# Altium integrated library Resistors.IntLib: 4954 symbols (part 26 of 32)
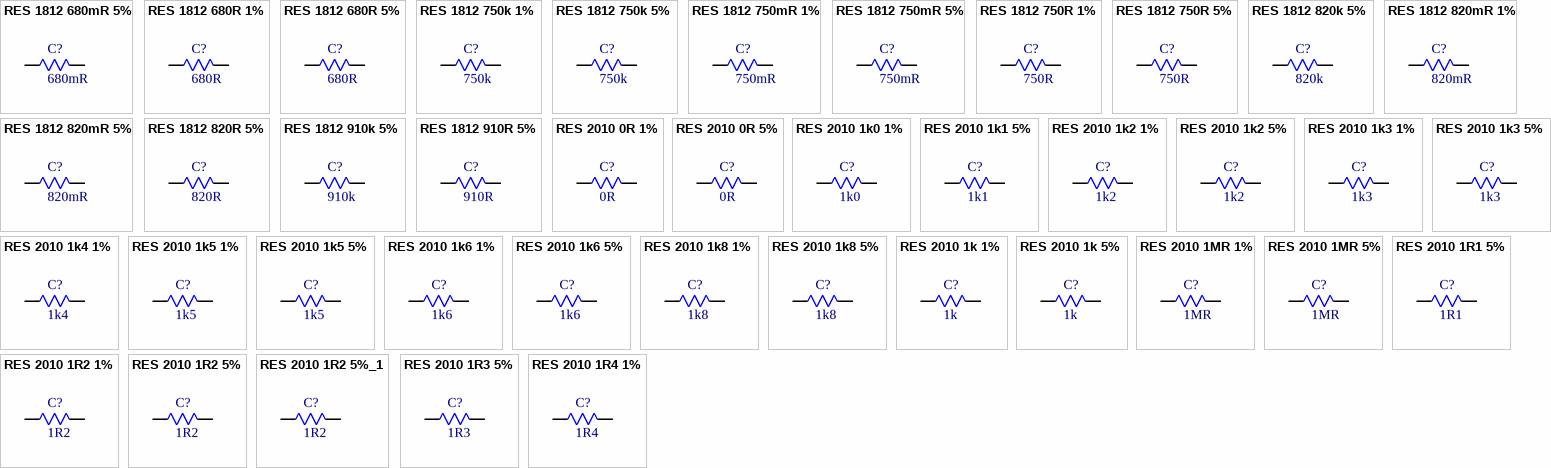
[diagram p148: symbols RES 1812 680mR 5% to RES 2010 1R4 1%]

## RES 2010 1R3 5%
designator C?, comment 1R3
1.3R 5% 750mW 2010 Thick Film Resistor; Manufacturer: FOJAN; Manufacturer Part Number: FRC2010J1R3 TS; Voltage Rating: 200V; Supplier: LCSC; Supplier Part Number: C2934005; Resistance: 1R3; Tolerance: 5%; Power: 750mW
footprint RES SMD 2010
pins: 1, 2

## RES 2010 1R4 1%
designator C?, comment 1R4
1.4R 1% 750mW 2010 Thick Film Resistor; Manufacturer: FOJAN; Manufacturer Part Number: FRC2010F1R40TS; Voltage Rating: 200V; Supplier: LCSC; Supplier Part Number: C5159754; Resistance: 1R4; Tolerance: 1%; Power: 750mW
footprint RES SMD 2010
pins: 1, 2

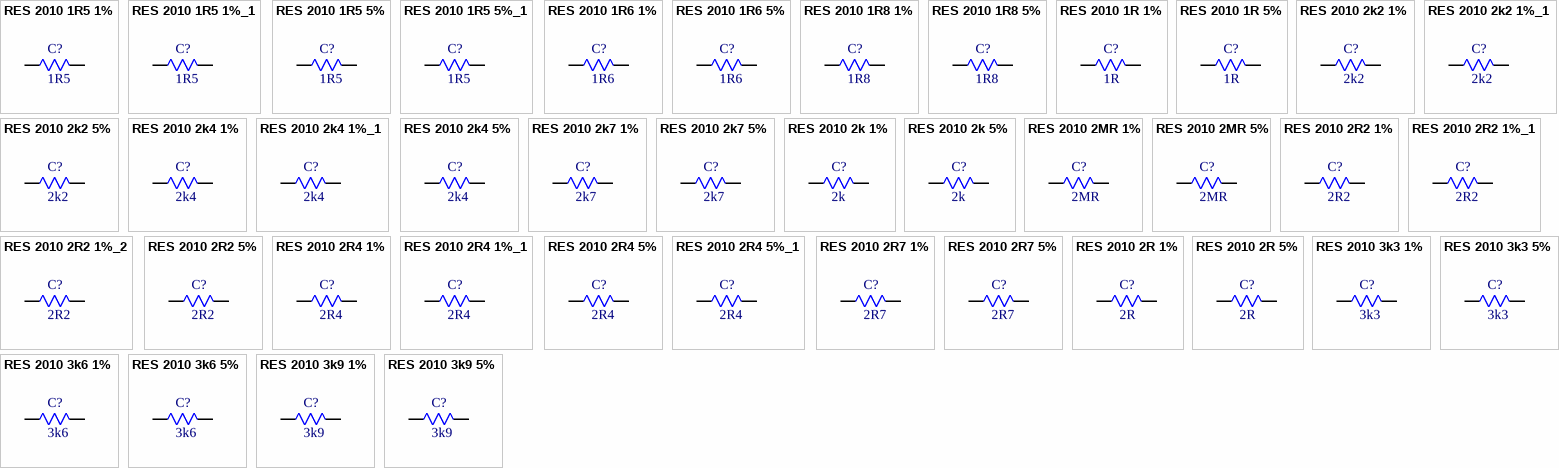
[diagram p100: symbols RES 2010 1R5 1% to RES 2010 3k9 5%]

## RES 2010 1R5 1%
designator C?, comment 1R5
1.5R 1% 750mW 2010 Thick Film Resistor; Manufacturer: FOJAN; Manufacturer Part Number: FRC2010F1R50TS; Voltage Rating: 200V; Supplier: LCSC; Supplier Part Number: C5146253; Resistance: 1R5; Tolerance: 1%; Power: 750mW
footprint RES SMD 2010
pins: 1, 2

## RES 2010 1R5 1%_1
designator C?, comment 1R5
750mW 1.5MR 200V Thick Film Resistor 100ppm/â„ƒ 1% 2010 Chip Resistor - Surface Mount RoHS; Manufacturer: FOJAN; Manufacturer Part Number: FRC2010F1504TS; Supplier: LCSC; Supplier Part Number: C48533728; Resistance: 1R5; Tolerance: 1%; Voltage Rating: 200V; Power: 750mW
footprint RES SMD 2010
pins: 1, 2

## RES 2010 1R5 5%
designator C?, comment 1R5
1.5R 5% 750mW 2010 Thick Film Resistor; Manufacturer: FOJAN; Manufacturer Part Number: FRC2010J1R5 TS; Voltage Rating: 200V; Supplier: LCSC; Supplier Part Number: C2934006; Resistance: 1R5; Tolerance: 5%; Power: 750mW
footprint RES SMD 2010
pins: 1, 2

## RES 2010 1R5 5%_1
designator C?, comment 1R5
750mW 1.5MR 200V Thick Film Resistor 5% 100ppm/â„ƒ 2010 Chip Resistor - Surface Mount RoHS; Manufacturer: FOJAN; Manufacturer Part Number: FRC2010J155 TS; Supplier: LCSC; Supplier Part Number: C7467367; Resistance: 1R5; Tolerance: 5%; Voltage Rating: 200V; Power: 750mW
footprint RES SMD 2010
pins: 1, 2

## RES 2010 1R6 1%
designator C?, comment 1R6
1.6R 1% 750mW 2010 Thick Film Resistor; Manufacturer: FOJAN; Manufacturer Part Number: FRC2010F1R60TS; Voltage Rating: 200V; Supplier: LCSC; Supplier Part Number: C2974094; Resistance: 1R6; Tolerance: 1%; Power: 750mW
footprint RES SMD 2010
pins: 1, 2

## RES 2010 1R6 5%
designator C?, comment 1R6
1.6R 5% 750mW 2010 Thick Film Resistor; Manufacturer: FOJAN; Manufacturer Part Number: FRC2010J1R6 TS; Voltage Rating: 200V; Supplier: LCSC; Supplier Part Number: C2934007; Resistance: 1R6; Tolerance: 5%; Power: 750mW
footprint RES SMD 2010
pins: 1, 2

## RES 2010 1R8 1%
designator C?, comment 1R8
1.8R 1% 750mW 2010 Thick Film Resistor; Manufacturer: FOJAN; Manufacturer Part Number: FRC2010F1R80TS; Voltage Rating: 200V; Supplier: LCSC; Supplier Part Number: C3013303; Resistance: 1R8; Tolerance: 1%; Power: 750mW
footprint RES SMD 2010
pins: 1, 2

## RES 2010 1R8 5%
designator C?, comment 1R8
1.8R 5% 750mW 2010 Thick Film Resistor; Manufacturer: FOJAN; Manufacturer Part Number: FRC2010J1R8 TS; Voltage Rating: 200V; Supplier: LCSC; Supplier Part Number: C2934008; Resistance: 1R8; Tolerance: 5%; Power: 750mW
footprint RES SMD 2010
pins: 1, 2

## RES 2010 1R 1%
designator C?, comment 1R
1R 1% 750mW 2010 Thick Film Resistor; Manufacturer: FOJAN; Manufacturer Part Number: FRC2010F1R00TS; Voltage Rating: 200V; Supplier: LCSC; Supplier Part Number: C2999615; Resistance: 1R; Tolerance: 1%; Power: 750mW
footprint RES SMD 2010
pins: 1, 2

## RES 2010 1R 5%
designator C?, comment 1R
1R 5% 750mW 2010 Thick Film Resistor; Manufacturer: FOJAN; Manufacturer Part Number: FRC2010J1R0 TS; Voltage Rating: 200V; Supplier: LCSC; Supplier Part Number: C2907562; Resistance: 1R; Tolerance: 5%; Power: 750mW
footprint RES SMD 2010
pins: 1, 2

## RES 2010 2k2 1%
designator C?, comment 2k2
1W 2.2kR 200V Thick Film Resistor 1% 2010 Chip Resistor - Surface Mount RoHS; Manufacturer: FOJAN; Manufacturer Part Number: FRP2010F2201TS; Supplier: LCSC; Supplier Part Number: C51048234; Resistance: 2k2; Tolerance: 1%; Voltage Rating: 200V; Power: 1W
footprint RES SMD 2010
pins: 1, 2

## RES 2010 2k2 1%_1
designator C?, comment 2k2
2.2kR 750mW 200V Thick Film Resistor 1% 100ppm/â„ƒ 2010 Chip Resistor - Surface Mount RoHS; Manufacturer: FOJAN; Manufacturer Part Number: FRC2010F2201TS; Supplier: LCSC; Supplier Part Number: C7467392; Resistance: 2k2; Tolerance: 1%; Voltage Rating: 200V; Power: 750mW
footprint RES SMD 2010
pins: 1, 2

## RES 2010 2k2 5%
designator C?, comment 2k2
2.2kR 5% 750mW 2010 Thick Film Resistor; Manufacturer: FOJAN; Manufacturer Part Number: FRC2010J222 TS; Voltage Rating: 200V; Supplier: LCSC; Supplier Part Number: C2934011; Resistance: 2k2; Tolerance: 5%; Power: 750mW
footprint RES SMD 2010
pins: 1, 2

## RES 2010 2k4 1%
designator C?, comment 2k4
2.49kR 1% 750mW 2010 Thick Film Resistor; Manufacturer: FOJAN; Manufacturer Part Number: FRC2010F2491TS; Voltage Rating: 200V; Supplier: LCSC; Supplier Part Number: C5713367; Resistance: 2k4; Tolerance: 1%; Power: 750mW
footprint RES SMD 2010
pins: 1, 2

## RES 2010 2k4 1%_1
designator C?, comment 2k4
2.4kR 1% 750mW 2010 Thick Film Resistor; Manufacturer: FOJAN; Manufacturer Part Number: FRC2010F2401TS; Voltage Rating: 200V; Supplier: LCSC; Supplier Part Number: C7543913; Resistance: 2k4; Tolerance: 1%; Power: 750mW
footprint RES SMD 2010
pins: 1, 2

## RES 2010 2k4 5%
designator C?, comment 2k4
2.4kR 5% 750mW 2010 Thick Film Resistor; Manufacturer: FOJAN; Manufacturer Part Number: FRC2010J242 TS; Voltage Rating: 200V; Supplier: LCSC; Supplier Part Number: C2934015; Resistance: 2k4; Tolerance: 5%; Power: 750mW
footprint RES SMD 2010
pins: 1, 2

## RES 2010 2k7 1%
designator C?, comment 2k7
2.7kR 1% 750mW 2010 Thick Film Resistor; Manufacturer: FOJAN; Manufacturer Part Number: FRC2010F2701TS; Voltage Rating: 200V; Supplier: LCSC; Supplier Part Number: C2974099; Resistance: 2k7; Tolerance: 1%; Power: 750mW
footprint RES SMD 2010
pins: 1, 2

## RES 2010 2k7 5%
designator C?, comment 2k7
2.7kR 5% 750mW 2010 Thick Film Resistor; Manufacturer: FOJAN; Manufacturer Part Number: FRC2010J272 TS; Voltage Rating: 200V; Supplier: LCSC; Supplier Part Number: C2934018; Resistance: 2k7; Tolerance: 5%; Power: 750mW
footprint RES SMD 2010
pins: 1, 2

## RES 2010 2k 1%
designator C?, comment 2k
2kR 1% 750mW 2010 Thick Film Resistor; Manufacturer: FOJAN; Manufacturer Part Number: FRC2010F2001TS; Voltage Rating: 200V; Supplier: LCSC; Supplier Part Number: C2974096; Resistance: 2k; Tolerance: 1%; Power: 750mW
footprint RES SMD 2010
pins: 1, 2

## RES 2010 2k 5%
designator C?, comment 2k
2kR 5% 750mW 2010 Thick Film Resistor; Manufacturer: FOJAN; Manufacturer Part Number: FRC2010J202 TS; Voltage Rating: 200V; Supplier: LCSC; Supplier Part Number: C2907563; Resistance: 2k; Tolerance: 5%; Power: 750mW
footprint RES SMD 2010
pins: 1, 2

## RES 2010 2MR 1%
designator C?, comment 2MR
2MR 1% 750mW 2010 Thick Film Resistor; Manufacturer: FOJAN; Manufacturer Part Number: FRC2010F2004TS; Voltage Rating: 200V; Supplier: LCSC; Supplier Part Number: C5159756; Resistance: 2MR; Tolerance: 1%; Power: 750mW
footprint RES SMD 2010
pins: 1, 2

## RES 2010 2MR 5%
designator C?, comment 2MR
2MR 5% 750mW 2010 Thick Film Resistor; Manufacturer: FOJAN; Manufacturer Part Number: FRC2010J205 TS; Voltage Rating: 200V; Supplier: LCSC; Supplier Part Number: C2934010; Resistance: 2MR; Tolerance: 5%; Power: 750mW
footprint RES SMD 2010
pins: 1, 2

## RES 2010 2R2 1%
designator C?, comment 2R2
2.2R 1% 750mW 2010 Thick Film Resistor; Manufacturer: FOJAN; Manufacturer Part Number: FRC2010F2R20TS; Voltage Rating: 200V; Supplier: LCSC; Supplier Part Number: C2999589; Resistance: 2R2; Tolerance: 1%; Power: 750mW
footprint RES SMD 2010
pins: 1, 2

## RES 2010 2R2 1%_1
designator C?, comment 2R2
1W 2.2R 200V Thick Film Resistor 1% 200ppm/â„ƒ 2010 Chip Resistor - Surface Mount RoHS; Manufacturer: FOJAN; Manufacturer Part Number: FRP2010F2R20TS; Supplier: LCSC; Supplier Part Number: C5713423; Resistance: 2R2; Tolerance: 1%; Voltage Rating: 200V; Power: 1W
footprint RES SMD 2010
pins: 1, 2

## RES 2010 2R2 1%_2
designator C?, comment 2R2
2.2MR 750mW 200V Thick Film Resistor 1% 2010 Chip Resistor - Surface Mount RoHS; Manufacturer: FOJAN; Manufacturer Part Number: FRC2010F2204TS; Supplier: LCSC; Supplier Part Number: C51048342; Resistance: 2R2; Tolerance: 1%; Voltage Rating: 200V; Power: 750mW
footprint RES SMD 2010
pins: 1, 2

## RES 2010 2R2 5%
designator C?, comment 2R2
2.2R 5% 750mW 2010 Thick Film Resistor; Manufacturer: FOJAN; Manufacturer Part Number: FRC2010J2R2 TS; Voltage Rating: 200V; Supplier: LCSC; Supplier Part Number: C2934019; Resistance: 2R2; Tolerance: 5%; Power: 750mW
footprint RES SMD 2010
pins: 1, 2

## RES 2010 2R4 1%
designator C?, comment 2R4
2.4R 1% 750mW 2010 Thick Film Resistor; Manufacturer: FOJAN; Manufacturer Part Number: FRC2010F2R40TS; Voltage Rating: 200V; Supplier: LCSC; Supplier Part Number: C2960849; Resistance: 2R4; Tolerance: 1%; Power: 750mW
footprint RES SMD 2010
pins: 1, 2

## RES 2010 2R4 1%_1
designator C?, comment 2R4
2.4MR 1% 750mW 2010 Thick Film Resistor; Manufacturer: FOJAN; Manufacturer Part Number: FRC2010F2404TS; Voltage Rating: 200V; Supplier: LCSC; Supplier Part Number: C2933986; Resistance: 2R4; Tolerance: 1%; Power: 750mW
footprint RES SMD 2010
pins: 1, 2

## RES 2010 2R4 5%
designator C?, comment 2R4
2.4MR 5% 750mW 2010 Thick Film Resistor; Manufacturer: FOJAN; Manufacturer Part Number: FRC2010J245 TS; Voltage Rating: 200V; Supplier: LCSC; Supplier Part Number: C2934016; Resistance: 2R4; Tolerance: 5%; Power: 750mW
footprint RES SMD 2010
pins: 1, 2

## RES 2010 2R4 5%_1
designator C?, comment 2R4
2.4R 5% 750mW 2010 Thick Film Resistor; Manufacturer: FOJAN; Manufacturer Part Number: FRC2010J2R4 TS; Voltage Rating: 200V; Supplier: LCSC; Supplier Part Number: C2974105; Resistance: 2R4; Tolerance: 5%; Power: 750mW
footprint RES SMD 2010
pins: 1, 2

## RES 2010 2R7 1%
designator C?, comment 2R7
2.7R 1% 750mW 2010 Thick Film Resistor; Manufacturer: FOJAN; Manufacturer Part Number: FRC2010F2R70TS; Voltage Rating: 200V; Supplier: LCSC; Supplier Part Number: C2999616; Resistance: 2R7; Tolerance: 1%; Power: 750mW
footprint RES SMD 2010
pins: 1, 2

## RES 2010 2R7 5%
designator C?, comment 2R7
2.7R 5% 750mW 2010 Thick Film Resistor; Manufacturer: FOJAN; Manufacturer Part Number: FRC2010J2R7TS; Voltage Rating: 200V; Supplier: LCSC; Supplier Part Number: C3000646; Resistance: 2R7; Tolerance: 5%; Power: 750mW
footprint RES SMD 2010
pins: 1, 2

## RES 2010 2R 1%
designator C?, comment 2R
2R 1% 750mW 2010 Thick Film Resistor; Manufacturer: FOJAN; Manufacturer Part Number: FRC2010F2R00TS; Voltage Rating: 200V; Supplier: LCSC; Supplier Part Number: C2960923; Resistance: 2R; Tolerance: 1%; Power: 750mW
footprint RES SMD 2010
pins: 1, 2

## RES 2010 2R 5%
designator C?, comment 2R
2R 5% 750mW 2010 Thick Film Resistor; Manufacturer: FOJAN; Manufacturer Part Number: FRC2010J2R0 TS; Voltage Rating: 200V; Supplier: LCSC; Supplier Part Number: C2960830; Resistance: 2R; Tolerance: 5%; Power: 750mW
footprint RES SMD 2010
pins: 1, 2

## RES 2010 3k3 1%
designator C?, comment 3k3
3.3kR 1% 750mW 2010 Thick Film Resistor; Manufacturer: FOJAN; Manufacturer Part Number: FRC2010F3301TS; Voltage Rating: 200V; Supplier: LCSC; Supplier Part Number: C3000595; Resistance: 3k3; Tolerance: 1%; Power: 750mW
footprint RES SMD 2010
pins: 1, 2

## RES 2010 3k3 5%
designator C?, comment 3k3
3.3kR 5% 750mW 2010 Thick Film Resistor; Manufacturer: FOJAN; Manufacturer Part Number: FRC2010J332 TS; Voltage Rating: 200V; Supplier: LCSC; Supplier Part Number: C2934023; Resistance: 3k3; Tolerance: 5%; Power: 750mW
footprint RES SMD 2010
pins: 1, 2

## RES 2010 3k6 1%
designator C?, comment 3k6
3.6kR 1% 750mW 2010 Thick Film Resistor; Manufacturer: FOJAN; Manufacturer Part Number: FRC2010F3601TS; Voltage Rating: 200V; Supplier: LCSC; Supplier Part Number: C3000550; Resistance: 3k6; Tolerance: 1%; Power: 750mW
footprint RES SMD 2010
pins: 1, 2

## RES 2010 3k6 5%
designator C?, comment 3k6
3.6kR 5% 750mW 2010 Thick Film Resistor; Manufacturer: FOJAN; Manufacturer Part Number: FRC2010J362 TS; Voltage Rating: 200V; Supplier: LCSC; Supplier Part Number: C2960824; Resistance: 3k6; Tolerance: 5%; Power: 750mW
footprint RES SMD 2010
pins: 1, 2

## RES 2010 3k9 1%
designator C?, comment 3k9
3.9kR 1% 750mW 2010 Thick Film Resistor; Manufacturer: FOJAN; Manufacturer Part Number: FRC2010F3901TS; Voltage Rating: 200V; Supplier: LCSC; Supplier Part Number: C3013305; Resistance: 3k9; Tolerance: 1%; Power: 750mW
footprint RES SMD 2010
pins: 1, 2

## RES 2010 3k9 5%
designator C?, comment 3k9
3.9kR 5% 750mW 2010 Thick Film Resistor; Manufacturer: FOJAN; Manufacturer Part Number: FRC2010J392 TS; Voltage Rating: 200V; Supplier: LCSC; Supplier Part Number: C2960925; Resistance: 3k9; Tolerance: 5%; Power: 750mW
footprint RES SMD 2010
pins: 1, 2

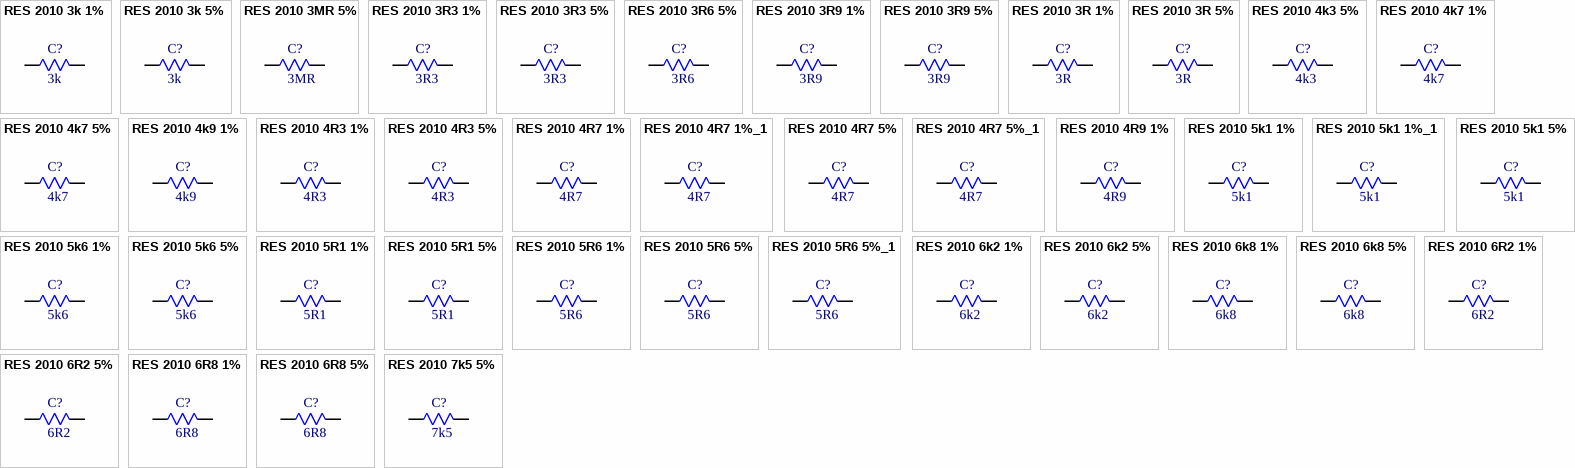
[diagram p101: symbols RES 2010 3k 1% to RES 2010 7k5 5%]

## RES 2010 3k 1%
designator C?, comment 3k
3kR 750mW 200V Thick Film Resistor 1% 100ppm/â„ƒ 2010 Chip Resistor - Surface Mount RoHS; Manufacturer: FOJAN; Manufacturer Part Number: FRC2010F3001TS; Supplier: LCSC; Supplier Part Number: C7467393; Resistance: 3k; Tolerance: 1%; Voltage Rating: 200V; Power: 750mW
footprint RES SMD 2010
pins: 1, 2

## RES 2010 3k 5%
designator C?, comment 3k
3kR 5% 750mW 2010 Thick Film Resistor; Manufacturer: FOJAN; Manufacturer Part Number: FRC2010J302 TS; Voltage Rating: 200V; Supplier: LCSC; Supplier Part Number: C2960838; Resistance: 3k; Tolerance: 5%; Power: 750mW
footprint RES SMD 2010
pins: 1, 2

## RES 2010 3MR 5%
designator C?, comment 3MR
750mW 3MR 200V Thick Film Resistor 100ppm/â„ƒ 5% 2010 Chip Resistor - Surface Mount RoHS; Manufacturer: FOJAN; Manufacturer Part Number: FRC2010J305 TS; Supplier: LCSC; Supplier Part Number: C48533701; Resistance: 3MR; Tolerance: 5%; Voltage Rating: 200V; Power: 750mW
footprint RES SMD 2010
pins: 1, 2

## RES 2010 3R3 1%
designator C?, comment 3R3
3.3R 1% 750mW 2010 Thick Film Resistor; Manufacturer: FOJAN; Manufacturer Part Number: FRC2010F3R30TS; Voltage Rating: 200V; Supplier: LCSC; Supplier Part Number: C5126040; Resistance: 3R3; Tolerance: 1%; Power: 750mW
footprint RES SMD 2010
pins: 1, 2

## RES 2010 3R3 5%
designator C?, comment 3R3
3.3R 5% 750mW 2010 Thick Film Resistor; Manufacturer: FOJAN; Manufacturer Part Number: FRC2010J3R3 TS; Voltage Rating: 200V; Supplier: LCSC; Supplier Part Number: C2960892; Resistance: 3R3; Tolerance: 5%; Power: 750mW
footprint RES SMD 2010
pins: 1, 2

## RES 2010 3R6 5%
designator C?, comment 3R6
3.6R 5% 750mW 2010 Thick Film Resistor; Manufacturer: FOJAN; Manufacturer Part Number: FRC2010J3R6 TS; Voltage Rating: 200V; Supplier: LCSC; Supplier Part Number: C2960913; Resistance: 3R6; Tolerance: 5%; Power: 750mW
footprint RES SMD 2010
pins: 1, 2

## RES 2010 3R9 1%
designator C?, comment 3R9
3.9R 1% 750mW 2010 Thick Film Resistor; Manufacturer: FOJAN; Manufacturer Part Number: FRC2010F3R90TS; Voltage Rating: 200V; Supplier: LCSC; Supplier Part Number: C3013307; Resistance: 3R9; Tolerance: 1%; Power: 750mW
footprint RES SMD 2010
pins: 1, 2

## RES 2010 3R9 5%
designator C?, comment 3R9
3.9R 5% 750mW 2010 Thick Film Resistor; Manufacturer: FOJAN; Manufacturer Part Number: FRC2010J3R9TS; Voltage Rating: 200V; Supplier: LCSC; Supplier Part Number: C3000650; Resistance: 3R9; Tolerance: 5%; Power: 750mW
footprint RES SMD 2010
pins: 1, 2

## RES 2010 3R 1%
designator C?, comment 3R
3R 1% 750mW 2010 Thick Film Resistor; Manufacturer: FOJAN; Manufacturer Part Number: FRC2010F3R00TS; Voltage Rating: 200V; Supplier: LCSC; Supplier Part Number: C2999596; Resistance: 3R; Tolerance: 1%; Power: 750mW
footprint RES SMD 2010
pins: 1, 2

## RES 2010 3R 5%
designator C?, comment 3R
3R 5% 750mW 2010 Thick Film Resistor; Manufacturer: FOJAN; Manufacturer Part Number: FRC2010J3R0 TS; Voltage Rating: 200V; Supplier: LCSC; Supplier Part Number: C2934028; Resistance: 3R; Tolerance: 5%; Power: 750mW
footprint RES SMD 2010
pins: 1, 2

## RES 2010 4k3 5%
designator C?, comment 4k3
4.3kR 5% 750mW 2010 Thick Film Resistor; Manufacturer: FOJAN; Manufacturer Part Number: FRC2010J432 TS; Voltage Rating: 200V; Supplier: LCSC; Supplier Part Number: C2934029; Resistance: 4k3; Tolerance: 5%; Power: 750mW
footprint RES SMD 2010
pins: 1, 2

## RES 2010 4k7 1%
designator C?, comment 4k7
4.7kR 1% 750mW 2010 Thick Film Resistor; Manufacturer: FOJAN; Manufacturer Part Number: FRC2010F4701TS; Voltage Rating: 200V; Supplier: LCSC; Supplier Part Number: C2999598; Resistance: 4k7; Tolerance: 1%; Power: 750mW
footprint RES SMD 2010
pins: 1, 2

## RES 2010 4k7 5%
designator C?, comment 4k7
4.7kR 5% 750mW 2010 Thick Film Resistor; Manufacturer: FOJAN; Manufacturer Part Number: FRC2010J472 TS; Voltage Rating: 200V; Supplier: LCSC; Supplier Part Number: C2934031; Resistance: 4k7; Tolerance: 5%; Power: 750mW
footprint RES SMD 2010
pins: 1, 2

## RES 2010 4k9 1%
designator C?, comment 4k9
4.99kR 1% 750mW 2010 Thick Film Resistor; Manufacturer: FOJAN; Manufacturer Part Number: FRC2010F4991TS; Voltage Rating: 200V; Supplier: LCSC; Supplier Part Number: C2999617; Resistance: 4k9; Tolerance: 1%; Power: 750mW
footprint RES SMD 2010
pins: 1, 2

## RES 2010 4R3 1%
designator C?, comment 4R3
4.3R 750mW 200V Thick Film Resistor 1% 200ppm/â„ƒ 2010 Chip Resistor - Surface Mount RoHS; Manufacturer: FOJAN; Manufacturer Part Number: FRC2010F4R30TS; Supplier: LCSC; Supplier Part Number: C19267405; Resistance: 4R3; Tolerance: 1%; Voltage Rating: 200V; Power: 750mW
footprint RES SMD 2010
pins: 1, 2

## RES 2010 4R3 5%
designator C?, comment 4R3
4.3R 5% 750mW 2010 Thick Film Resistor; Manufacturer: FOJAN; Manufacturer Part Number: FRC2010J4R3TS; Voltage Rating: 200V; Supplier: LCSC; Supplier Part Number: C5154008; Resistance: 4R3; Tolerance: 5%; Power: 750mW
footprint RES SMD 2010
pins: 1, 2

## RES 2010 4R7 1%
designator C?, comment 4R7
4.7R 1% 750mW 2010 Thick Film Resistor; Manufacturer: FOJAN; Manufacturer Part Number: FRC2010F4R70TS; Voltage Rating: 200V; Supplier: LCSC; Supplier Part Number: C3000764; Resistance: 4R7; Tolerance: 1%; Power: 750mW
footprint RES SMD 2010
pins: 1, 2

## RES 2010 4R7 1%_1
designator C?, comment 4R7
4.7MR 750mW 200V Thick Film Resistor 100ppm/â„ƒ 1% 2010 Chip Resistor - Surface Mount RoHS; Manufacturer: FOJAN; Manufacturer Part Number: FRC2010F4704TS; Supplier: LCSC; Supplier Part Number: C48533686; Resistance: 4R7; Tolerance: 1%; Voltage Rating: 200V; Power: 750mW
footprint RES SMD 2010
pins: 1, 2

## RES 2010 4R7 5%
designator C?, comment 4R7
4.7MR 750mW 200V Thick Film Resistor 5% 100ppm/â„ƒ 2010 Chip Resistor - Surface Mount RoHS; Manufacturer: FOJAN; Manufacturer Part Number: FRC2010J475 TS; Supplier: LCSC; Supplier Part Number: C7467395; Resistance: 4R7; Tolerance: 5%; Voltage Rating: 200V; Power: 750mW
footprint RES SMD 2010
pins: 1, 2

## RES 2010 4R7 5%_1
designator C?, comment 4R7
4.7R 5% 750mW 2010 Thick Film Resistor; Manufacturer: FOJAN; Manufacturer Part Number: FRC2010J4R7TS; Voltage Rating: 200V; Supplier: LCSC; Supplier Part Number: C5154014; Resistance: 4R7; Tolerance: 5%; Power: 750mW
footprint RES SMD 2010
pins: 1, 2

## RES 2010 4R9 1%
designator C?, comment 4R9
750mW 4.99R 200V Thick Film Resistor 1% 200ppm/â„ƒ 2010 Chip Resistor - Surface Mount RoHS; Manufacturer: FOJAN; Manufacturer Part Number: FRC2010F4R99TS; Supplier: LCSC; Supplier Part Number: C48533757; Resistance: 4R9; Tolerance: 1%; Voltage Rating: 200V; Power: 750mW
footprint RES SMD 2010
pins: 1, 2

## RES 2010 5k1 1%
designator C?, comment 5k1
5.1kR 1% 750mW 2010 Thick Film Resistor; Manufacturer: FOJAN; Manufacturer Part Number: FRC2010F5101TS; Voltage Rating: 200V; Supplier: LCSC; Supplier Part Number: C2999618; Resistance: 5k1; Tolerance: 1%; Power: 750mW
footprint RES SMD 2010
pins: 1, 2

## RES 2010 5k1 1%_1
designator C?, comment 5k1
5.11kR 750mW 200V Thick Film Resistor 1% 100ppm/â„ƒ 2010 Chip Resistor - Surface Mount RoHS; Manufacturer: FOJAN; Manufacturer Part Number: FRC2010F5111TS; Supplier: LCSC; Supplier Part Number: C7467384; Resistance: 5k1; Tolerance: 1%; Voltage Rating: 200V; Power: 750mW
footprint RES SMD 2010
pins: 1, 2

## RES 2010 5k1 5%
designator C?, comment 5k1
5.1kR 5% 750mW 2010 Thick Film Resistor; Manufacturer: FOJAN; Manufacturer Part Number: FRC2010J512 TS; Voltage Rating: 200V; Supplier: LCSC; Supplier Part Number: C2934032; Resistance: 5k1; Tolerance: 5%; Power: 750mW
footprint RES SMD 2010
pins: 1, 2

## RES 2010 5k6 1%
designator C?, comment 5k6
5.6kR 1% 750mW 2010 Thick Film Resistor; Manufacturer: FOJAN; Manufacturer Part Number: FRC2010F5601TS; Voltage Rating: 200V; Supplier: LCSC; Supplier Part Number: C3000765; Resistance: 5k6; Tolerance: 1%; Power: 750mW
footprint RES SMD 2010
pins: 1, 2

## RES 2010 5k6 5%
designator C?, comment 5k6
5.6kR 5% 750mW 2010 Thick Film Resistor; Manufacturer: FOJAN; Manufacturer Part Number: FRC2010J562 TS; Voltage Rating: 200V; Supplier: LCSC; Supplier Part Number: C2960836; Resistance: 5k6; Tolerance: 5%; Power: 750mW
footprint RES SMD 2010
pins: 1, 2

## RES 2010 5R1 1%
designator C?, comment 5R1
5.1R 1% 750mW 2010 Thick Film Resistor; Manufacturer: FOJAN; Manufacturer Part Number: FRC2010F5R10TS; Voltage Rating: 200V; Supplier: LCSC; Supplier Part Number: C5121559; Resistance: 5R1; Tolerance: 1%; Power: 750mW
footprint RES SMD 2010
pins: 1, 2

## RES 2010 5R1 5%
designator C?, comment 5R1
5.1R 5% 750mW 2010 Thick Film Resistor; Manufacturer: FOJAN; Manufacturer Part Number: FRC2010J5R1 TS; Voltage Rating: 200V; Supplier: LCSC; Supplier Part Number: C2934036; Resistance: 5R1; Tolerance: 5%; Power: 750mW
footprint RES SMD 2010
pins: 1, 2

## RES 2010 5R6 1%
designator C?, comment 5R6
5.6R 1% 750mW 2010 Thick Film Resistor; Manufacturer: FOJAN; Manufacturer Part Number: FRC2010F5R60TS; Voltage Rating: 200V; Supplier: LCSC; Supplier Part Number: C3000667; Resistance: 5R6; Tolerance: 1%; Power: 750mW
footprint RES SMD 2010
pins: 1, 2

## RES 2010 5R6 5%
designator C?, comment 5R6
5.6MR 5% 750mW 2010 Thick Film Resistor; Manufacturer: FOJAN; Manufacturer Part Number: FRC2010J565 TS; Voltage Rating: 200V; Supplier: LCSC; Supplier Part Number: C5447248; Resistance: 5R6; Tolerance: 5%; Power: 750mW
footprint RES SMD 2010
pins: 1, 2

## RES 2010 5R6 5%_1
designator C?, comment 5R6
5.6R 5% 750mW 2010 Thick Film Resistor; Manufacturer: FOJAN; Manufacturer Part Number: FRC2010J5R6 TS; Voltage Rating: 200V; Supplier: LCSC; Supplier Part Number: C2960688; Resistance: 5R6; Tolerance: 5%; Power: 750mW
footprint RES SMD 2010
pins: 1, 2

## RES 2010 6k2 1%
designator C?, comment 6k2
750mW 6.2kR 200V Thick Film Resistor 100ppm/â„ƒ 1% 2010 Chip Resistor - Surface Mount RoHS; Manufacturer: FOJAN; Manufacturer Part Number: FRC2010F6201TS; Supplier: LCSC; Supplier Part Number: C19267406; Resistance: 6k2; Tolerance: 1%; Voltage Rating: 200V; Power: 750mW
footprint RES SMD 2010
pins: 1, 2

## RES 2010 6k2 5%
designator C?, comment 6k2
6.2kR 5% 750mW 2010 Thick Film Resistor; Manufacturer: FOJAN; Manufacturer Part Number: FRC2010J622TS; Voltage Rating: 200V; Supplier: LCSC; Supplier Part Number: C3000651; Resistance: 6k2; Tolerance: 5%; Power: 750mW
footprint RES SMD 2010
pins: 1, 2

## RES 2010 6k8 1%
designator C?, comment 6k8
6.8kR 1% 750mW 2010 Thick Film Resistor; Manufacturer: FOJAN; Manufacturer Part Number: FRC2010F6801TS; Voltage Rating: 200V; Supplier: LCSC; Supplier Part Number: C5713371; Resistance: 6k8; Tolerance: 1%; Power: 750mW
footprint RES SMD 2010
pins: 1, 2

## RES 2010 6k8 5%
designator C?, comment 6k8
6.8kR 5% 750mW 2010 Thick Film Resistor; Manufacturer: FOJAN; Manufacturer Part Number: FRC2010J682TS; Voltage Rating: 200V; Supplier: LCSC; Supplier Part Number: C3000652; Resistance: 6k8; Tolerance: 5%; Power: 750mW
footprint RES SMD 2010
pins: 1, 2

## RES 2010 6R2 1%
designator C?, comment 6R2
6.2R 1% 750mW 2010 Thick Film Resistor; Manufacturer: FOJAN; Manufacturer Part Number: FRC2010F6R20TS; Voltage Rating: 200V; Supplier: LCSC; Supplier Part Number: C5204036; Resistance: 6R2; Tolerance: 1%; Power: 750mW
footprint RES SMD 2010
pins: 1, 2

## RES 2010 6R2 5%
designator C?, comment 6R2
6.2R 5% 750mW 2010 Thick Film Resistor; Manufacturer: FOJAN; Manufacturer Part Number: FRC2010J6R2 TS; Voltage Rating: 200V; Supplier: LCSC; Supplier Part Number: C2934038; Resistance: 6R2; Tolerance: 5%; Power: 750mW
footprint RES SMD 2010
pins: 1, 2

## RES 2010 6R8 1%
designator C?, comment 6R8
6.8R 1% 750mW 2010 Thick Film Resistor; Manufacturer: FOJAN; Manufacturer Part Number: FRC2010F6R80TS; Voltage Rating: 200V; Supplier: LCSC; Supplier Part Number: C3013311; Resistance: 6R8; Tolerance: 1%; Power: 750mW
footprint RES SMD 2010
pins: 1, 2

## RES 2010 6R8 5%
designator C?, comment 6R8
6.8R 5% 750mW 2010 Thick Film Resistor; Manufacturer: FOJAN; Manufacturer Part Number: FRC2010J6R8TS; Voltage Rating: 200V; Supplier: LCSC; Supplier Part Number: C3000706; Resistance: 6R8; Tolerance: 5%; Power: 750mW
footprint RES SMD 2010
pins: 1, 2

## RES 2010 7k5 5%
designator C?, comment 7k5
7.5kR 5% 750mW 2010 Thick Film Resistor; Manufacturer: FOJAN; Manufacturer Part Number: FRC2010J752 TS; Voltage Rating: 200V; Supplier: LCSC; Supplier Part Number: C2960748; Resistance: 7k5; Tolerance: 5%; Power: 750mW
footprint RES SMD 2010
pins: 1, 2

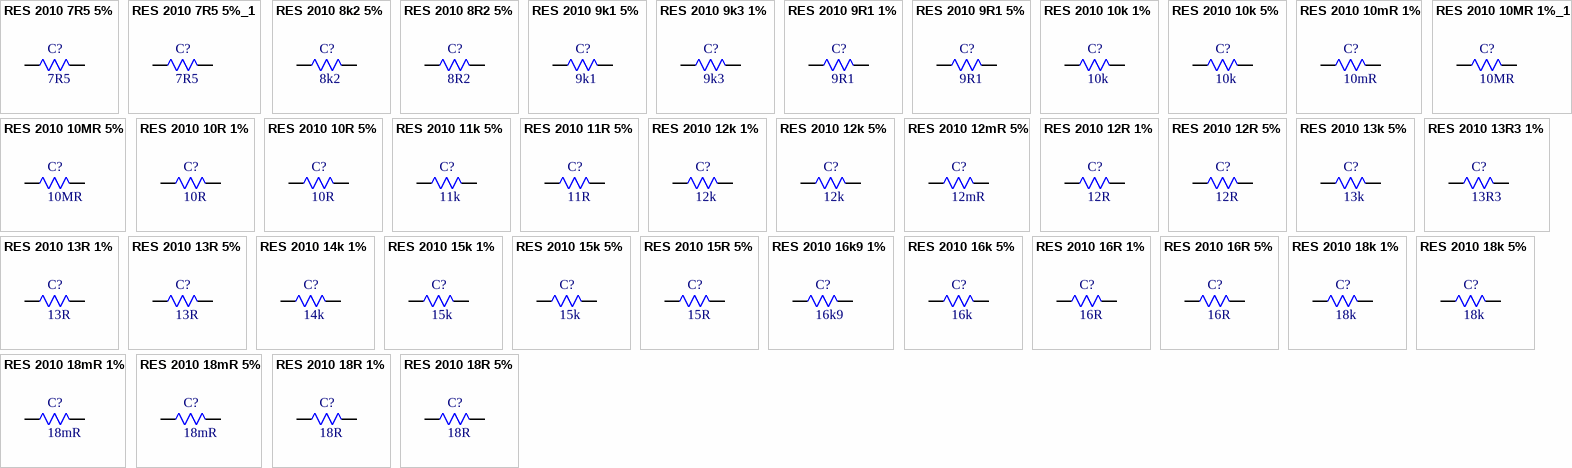
[diagram p102: symbols RES 2010 7R5 5% to RES 2010 18R 5%]

## RES 2010 7R5 5%
designator C?, comment 7R5
7.5R 5% 750mW 2010 Thick Film Resistor; Manufacturer: FOJAN; Manufacturer Part Number: FRC2010J7R5TS; Voltage Rating: 200V; Supplier: LCSC; Supplier Part Number: C3000623; Resistance: 7R5; Tolerance: 5%; Power: 750mW
footprint RES SMD 2010
pins: 1, 2

## RES 2010 7R5 5%_1
designator C?, comment 7R5
7.5MR 5% 750mW 2010 Thick Film Resistor; Manufacturer: FOJAN; Manufacturer Part Number: FRC2010J755 TS; Voltage Rating: 200V; Supplier: LCSC; Supplier Part Number: C2934040; Resistance: 7R5; Tolerance: 5%; Power: 750mW
footprint RES SMD 2010
pins: 1, 2

## RES 2010 8k2 5%
designator C?, comment 8k2
8.2kR 5% 750mW 2010 Thick Film Resistor; Manufacturer: FOJAN; Manufacturer Part Number: FRC2010J822 TS; Voltage Rating: 200V; Supplier: LCSC; Supplier Part Number: C5121561; Resistance: 8k2; Tolerance: 5%; Power: 750mW
footprint RES SMD 2010
pins: 1, 2

## RES 2010 8R2 5%
designator C?, comment 8R2
8.2R 5% 750mW 2010 Thick Film Resistor; Manufacturer: FOJAN; Manufacturer Part Number: FRC2010J8R2 TS; Voltage Rating: 200V; Supplier: LCSC; Supplier Part Number: C3013318; Resistance: 8R2; Tolerance: 5%; Power: 750mW
footprint RES SMD 2010
pins: 1, 2

## RES 2010 9k1 5%
designator C?, comment 9k1
9.1kR 5% 750mW 2010 Thick Film Resistor; Manufacturer: FOJAN; Manufacturer Part Number: FRC2010J912 TS; Voltage Rating: 200V; Supplier: LCSC; Supplier Part Number: C3013319; Resistance: 9k1; Tolerance: 5%; Power: 750mW
footprint RES SMD 2010
pins: 1, 2

## RES 2010 9k3 1%
designator C?, comment 9k3
9.31kR 750mW 200V Thick Film Resistor 1% 2010 Chip Resistor - Surface Mount RoHS; Manufacturer: FOJAN; Manufacturer Part Number: FRC2010F9311TS; Supplier: LCSC; Supplier Part Number: C51048279; Resistance: 9k3; Tolerance: 1%; Voltage Rating: 200V; Power: 750mW
footprint RES SMD 2010
pins: 1, 2

## RES 2010 9R1 1%
designator C?, comment 9R1
9.1R 1% 750mW 2010 Thick Film Resistor; Manufacturer: FOJAN; Manufacturer Part Number: FRC2010F9R10TS; Voltage Rating: 200V; Supplier: LCSC; Supplier Part Number: C3000596; Resistance: 9R1; Tolerance: 1%; Power: 750mW
footprint RES SMD 2010
pins: 1, 2

## RES 2010 9R1 5%
designator C?, comment 9R1
9.1R 5% 750mW 2010 Thick Film Resistor; Manufacturer: FOJAN; Manufacturer Part Number: FRC2010J9R1 TS; Voltage Rating: 200V; Supplier: LCSC; Supplier Part Number: C2934042; Resistance: 9R1; Tolerance: 5%; Power: 750mW
footprint RES SMD 2010
pins: 1, 2

## RES 2010 10k 1%
designator C?, comment 10k
10kR 1% 750mW 2010 Thick Film Resistor; Manufacturer: FOJAN; Manufacturer Part Number: FRC2010F1002TS; Voltage Rating: 200V; Supplier: LCSC; Supplier Part Number: C2960917; Resistance: 10k; Tolerance: 1%; Power: 750mW
footprint RES SMD 2010
pins: 1, 2

## RES 2010 10k 5%
designator C?, comment 10k
10kR 5% 750mW 2010 Thick Film Resistor; Manufacturer: FOJAN; Manufacturer Part Number: FRC2010J103 TS; Voltage Rating: 200V; Supplier: LCSC; Supplier Part Number: C2933993; Resistance: 10k; Tolerance: 5%; Power: 750mW
footprint RES SMD 2010
pins: 1, 2

## RES 2010 10mR 1%
designator C?, comment 10mR
10mR 750mW Thick Film Resistor 1% 2010 Chip Resistor - Surface Mount RoHS; Manufacturer: FOJAN; Manufacturer Part Number: FRL2010FR010TS; Supplier: LCSC; Supplier Part Number: C7467665; Resistance: 10mR; Tolerance: 1%; Power: 750mW
footprint RES SMD 2010
pins: 1, 2

## RES 2010 10MR 1%_1
designator C?, comment 10MR
750mW 10MR 200V Thick Film Resistor 1% 2010 Chip Resistor - Surface Mount RoHS; Manufacturer: FOJAN; Manufacturer Part Number: FRC2010F1005TS; Supplier: LCSC; Supplier Part Number: C51048205; Resistance: 10MR; Tolerance: 1%; Voltage Rating: 200V; Power: 750mW
footprint RES SMD 2010
pins: 1, 2

## RES 2010 10MR 5%
designator C?, comment 10MR
10MR 5% 750mW 2010 Thick Film Resistor; Manufacturer: FOJAN; Manufacturer Part Number: FRC2010J106 TS; Voltage Rating: 200V; Supplier: LCSC; Supplier Part Number: C2933994; Resistance: 10MR; Tolerance: 5%; Power: 750mW
footprint RES SMD 2010
pins: 1, 2

## RES 2010 10R 1%
designator C?, comment 10R
10R 1% 750mW 2010 Thick Film Resistor; Manufacturer: FOJAN; Manufacturer Part Number: FRC2010F10R0TS; Voltage Rating: 200V; Supplier: LCSC; Supplier Part Number: C2999588; Resistance: 10R; Tolerance: 1%; Power: 750mW
footprint RES SMD 2010
pins: 1, 2

## RES 2010 10R 5%
designator C?, comment 10R
10R 5% 750mW 2010 Thick Film Resistor; Manufacturer: FOJAN; Manufacturer Part Number: FRC2010J100 TS; Voltage Rating: 200V; Supplier: LCSC; Supplier Part Number: C2974101; Resistance: 10R; Tolerance: 5%; Power: 750mW
footprint RES SMD 2010
pins: 1, 2

## RES 2010 11k 5%
designator C?, comment 11k
11kR 5% 750mW 2010 Thick Film Resistor; Manufacturer: FOJAN; Manufacturer Part Number: FRC2010J113 TS; Voltage Rating: 200V; Supplier: LCSC; Supplier Part Number: C5204037; Resistance: 11k; Tolerance: 5%; Power: 750mW
footprint RES SMD 2010
pins: 1, 2

## RES 2010 11R 5%
designator C?, comment 11R
11R 5% 750mW 2010 Thick Film Resistor; Manufacturer: FOJAN; Manufacturer Part Number: FRC2010J110 TS; Voltage Rating: 200V; Supplier: LCSC; Supplier Part Number: C5159760; Resistance: 11R; Tolerance: 5%; Power: 750mW
footprint RES SMD 2010
pins: 1, 2

## RES 2010 12k 1%
designator C?, comment 12k
12kR 1% 750mW 2010 Thick Film Resistor; Manufacturer: FOJAN; Manufacturer Part Number: FRC2010F1202TS; Voltage Rating: 200V; Supplier: LCSC; Supplier Part Number: C42372193; Resistance: 12k; Tolerance: 1%; Power: 750mW
footprint RES SMD 2010
pins: 1, 2

## RES 2010 12k 5%
designator C?, comment 12k
12kR 5% 750mW 2010 Thick Film Resistor; Manufacturer: FOJAN; Manufacturer Part Number: FRC2010J123 TS; Voltage Rating: 200V; Supplier: LCSC; Supplier Part Number: C2974103; Resistance: 12k; Tolerance: 5%; Power: 750mW
footprint RES SMD 2010
pins: 1, 2

## RES 2010 12mR 5%
designator C?, comment 12mR
12mR 750mW Thick Film Resistor 5% 2010 Chip Resistor - Surface Mount RoHS; Manufacturer: FOJAN; Manufacturer Part Number: FRL2010JR012TS; Supplier: LCSC; Supplier Part Number: C7467603; Resistance: 12mR; Tolerance: 5%; Power: 750mW
footprint RES SMD 2010
pins: 1, 2

## RES 2010 12R 1%
designator C?, comment 12R
12R 1% 750mW 2010 Thick Film Resistor; Manufacturer: FOJAN; Manufacturer Part Number: FRC2010F12R0TS; Voltage Rating: 200V; Supplier: LCSC; Supplier Part Number: C3013299; Resistance: 12R; Tolerance: 1%; Power: 750mW
footprint RES SMD 2010
pins: 1, 2

## RES 2010 12R 5%
designator C?, comment 12R
12R 5% 750mW 2010 Thick Film Resistor; Manufacturer: FOJAN; Manufacturer Part Number: FRC2010J120 TS; Voltage Rating: 200V; Supplier: LCSC; Supplier Part Number: C2974102; Resistance: 12R; Tolerance: 5%; Power: 750mW
footprint RES SMD 2010
pins: 1, 2

## RES 2010 13k 5%
designator C?, comment 13k
13kR 5% 750mW 2010 Thick Film Resistor; Manufacturer: FOJAN; Manufacturer Part Number: FRC2010J133 TS; Voltage Rating: 200V; Supplier: LCSC; Supplier Part Number: C5713372; Resistance: 13k; Tolerance: 5%; Power: 750mW
footprint RES SMD 2010
pins: 1, 2

## RES 2010 13R3 1%
designator C?, comment 13R3
13.3R 1W Thick Film Resistor 1% 200ppm/â„ƒ 2010 Chip Resistor - Surface Mount RoHS; Manufacturer: FOJAN; Manufacturer Part Number: FRP2010F13R3TS; Supplier: LCSC; Supplier Part Number: C22375111; Resistance: 13R3; Tolerance: 1%; Power: 1W
footprint RES SMD 2010
pins: 1, 2

## RES 2010 13R 1%
designator C?, comment 13R
13R 1% 750mW 2010 Thick Film Resistor; Manufacturer: FOJAN; Manufacturer Part Number: FRC2010F13R0TS; Voltage Rating: 200V; Supplier: LCSC; Supplier Part Number: C2974090; Resistance: 13R; Tolerance: 1%; Power: 750mW
footprint RES SMD 2010
pins: 1, 2

## RES 2010 13R 5%
designator C?, comment 13R
13R 5% 750mW 2010 Thick Film Resistor; Manufacturer: FOJAN; Manufacturer Part Number: FRC2010J130 TS; Voltage Rating: 200V; Supplier: LCSC; Supplier Part Number: C3013315; Resistance: 13R; Tolerance: 5%; Power: 750mW
footprint RES SMD 2010
pins: 1, 2

## RES 2010 14k 1%
designator C?, comment 14k
14kR 1% 750mW 2010 Thick Film Resistor; Manufacturer: FOJAN; Manufacturer Part Number: FRC2010F1402TS; Voltage Rating: 200V; Supplier: LCSC; Supplier Part Number: C5713364; Resistance: 14k; Tolerance: 1%; Power: 750mW
footprint RES SMD 2010
pins: 1, 2

## RES 2010 15k 1%
designator C?, comment 15k
15kR 1% 750mW 2010 Thick Film Resistor; Manufacturer: FOJAN; Manufacturer Part Number: FRC2010F1502TS; Voltage Rating: 200V; Supplier: LCSC; Supplier Part Number: C5713365; Resistance: 15k; Tolerance: 1%; Power: 750mW
footprint RES SMD 2010
pins: 1, 2

## RES 2010 15k 5%
designator C?, comment 15k
15kR 5% 750mW 2010 Thick Film Resistor; Manufacturer: FOJAN; Manufacturer Part Number: FRC2010J153TS; Voltage Rating: 200V; Supplier: LCSC; Supplier Part Number: C2930453; Resistance: 15k; Tolerance: 5%; Power: 750mW
footprint RES SMD 2010
pins: 1, 2

## RES 2010 15R 5%
designator C?, comment 15R
15R 5% 750mW 2010 Thick Film Resistor; Manufacturer: FOJAN; Manufacturer Part Number: FRC2010J150 TS; Voltage Rating: 200V; Supplier: LCSC; Supplier Part Number: C2907559; Resistance: 15R; Tolerance: 5%; Power: 750mW
footprint RES SMD 2010
pins: 1, 2

## RES 2010 16k9 1%
designator C?, comment 16k9
16.9kR 750mW 200V Thick Film Resistor 1% 2010 Chip Resistor - Surface Mount RoHS; Manufacturer: FOJAN; Manufacturer Part Number: FRC2010F1692TS; Supplier: LCSC; Supplier Part Number: C51048194; Resistance: 16k9; Tolerance: 1%; Voltage Rating: 200V; Power: 750mW
footprint RES SMD 2010
pins: 1, 2

## RES 2010 16k 5%
designator C?, comment 16k
16kR 5% 750mW 2010 Thick Film Resistor; Manufacturer: FOJAN; Manufacturer Part Number: FRC2010J163TS; Voltage Rating: 200V; Supplier: LCSC; Supplier Part Number: C5379849; Resistance: 16k; Tolerance: 5%; Power: 750mW
footprint RES SMD 2010
pins: 1, 2

## RES 2010 16R 1%
designator C?, comment 16R
16R 1% 750mW 2010 Thick Film Resistor; Manufacturer: FOJAN; Manufacturer Part Number: FRC2010F16R0TS; Voltage Rating: 200V; Supplier: LCSC; Supplier Part Number: C5126090; Resistance: 16R; Tolerance: 1%; Power: 750mW
footprint RES SMD 2010
pins: 1, 2

## RES 2010 16R 5%
designator C?, comment 16R
16R 5% 750mW 2010 Thick Film Resistor; Manufacturer: FOJAN; Manufacturer Part Number: FRC2010J160 TS; Voltage Rating: 200V; Supplier: LCSC; Supplier Part Number: C2934000; Resistance: 16R; Tolerance: 5%; Power: 750mW
footprint RES SMD 2010
pins: 1, 2

## RES 2010 18k 1%
designator C?, comment 18k
18kR 1% 750mW 2010 Thick Film Resistor; Manufacturer: FOJAN; Manufacturer Part Number: FRC2010F1802TS; Voltage Rating: 200V; Supplier: LCSC; Supplier Part Number: C2999522; Resistance: 18k; Tolerance: 1%; Power: 750mW
footprint RES SMD 2010
pins: 1, 2

## RES 2010 18k 5%
designator C?, comment 18k
18kR 5% 750mW 2010 Thick Film Resistor; Manufacturer: FOJAN; Manufacturer Part Number: FRC2010J183 TS; Voltage Rating: 200V; Supplier: LCSC; Supplier Part Number: C3013316; Resistance: 18k; Tolerance: 5%; Power: 750mW
footprint RES SMD 2010
pins: 1, 2

## RES 2010 18mR 1%
designator C?, comment 18mR
18mR 750mW Thick Film Resistor 1% 2010 Chip Resistor - Surface Mount RoHS; Manufacturer: FOJAN; Manufacturer Part Number: FRL2010FR018TS; Supplier: LCSC; Supplier Part Number: C7467719; Resistance: 18mR; Tolerance: 1%; Power: 750mW
footprint RES SMD 2010
pins: 1, 2

## RES 2010 18mR 5%
designator C?, comment 18mR
18mR 750mW Thick Film Resistor 5% 2010 Chip Resistor - Surface Mount RoHS; Manufacturer: FOJAN; Manufacturer Part Number: FRL2010JR018TS; Supplier: LCSC; Supplier Part Number: C7467615; Resistance: 18mR; Tolerance: 5%; Power: 750mW
footprint RES SMD 2010
pins: 1, 2

## RES 2010 18R 1%
designator C?, comment 18R
18R 1% 750mW 2010 Thick Film Resistor; Manufacturer: FOJAN; Manufacturer Part Number: FRC2010F18R0TS; Voltage Rating: 200V; Supplier: LCSC; Supplier Part Number: C3013302; Resistance: 18R; Tolerance: 1%; Power: 750mW
footprint RES SMD 2010
pins: 1, 2

## RES 2010 18R 5%
designator C?, comment 18R
18R 5% 750mW 2010 Thick Film Resistor; Manufacturer: FOJAN; Manufacturer Part Number: FRC2010J180TS; Voltage Rating: 200V; Supplier: LCSC; Supplier Part Number: C3000575; Resistance: 18R; Tolerance: 5%; Power: 750mW
footprint RES SMD 2010
pins: 1, 2

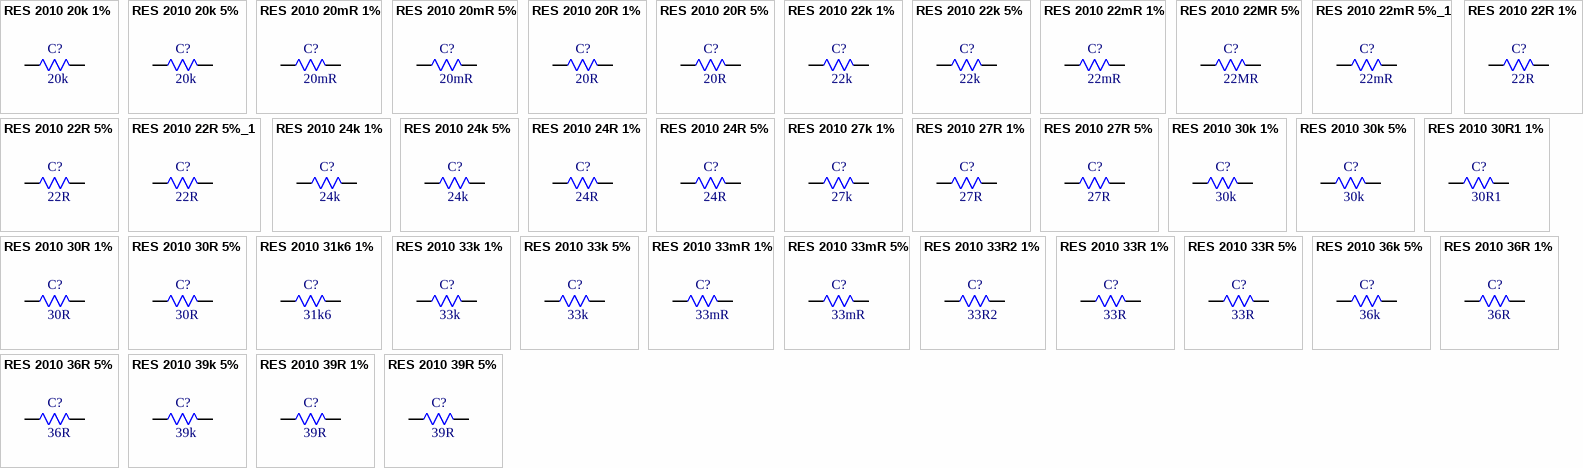
[diagram p103: symbols RES 2010 20k 1% to RES 2010 39R 5%]

## RES 2010 20k 1%
designator C?, comment 20k
750mW 20kR 200V Thick Film Resistor 1% 2010 Chip Resistor - Surface Mount RoHS; Manufacturer: FOJAN; Manufacturer Part Number: FRC2010F2002TS; Supplier: LCSC; Supplier Part Number: C51048188; Resistance: 20k; Tolerance: 1%; Voltage Rating: 200V; Power: 750mW
footprint RES SMD 2010
pins: 1, 2

## RES 2010 20k 5%
designator C?, comment 20k
20kR 5% 750mW 2010 Thick Film Resistor; Manufacturer: FOJAN; Manufacturer Part Number: FRC2010J203 TS; Voltage Rating: 200V; Supplier: LCSC; Supplier Part Number: C5121560; Resistance: 20k; Tolerance: 5%; Power: 750mW
footprint RES SMD 2010
pins: 1, 2

## RES 2010 20mR 1%
designator C?, comment 20mR
20mR 1% 750mW 2010 Thick Film Resistor; Manufacturer: FOJAN; Manufacturer Part Number: FRL2010FR020TS; Supplier: LCSC; Supplier Part Number: C7507087; Resistance: 20mR; Tolerance: 1%; Power: 750mW
footprint RES SMD 2010
pins: 1, 2

## RES 2010 20mR 5%
designator C?, comment 20mR
20mR 750mW Thick Film Resistor 1200ppm/â„ƒ 5% 2010 Chip Resistor - Surface Mount RoHS; Manufacturer: FOJAN; Manufacturer Part Number: FRL2010JR020TS; Supplier: LCSC; Supplier Part Number: C7467565; Resistance: 20mR; Tolerance: 5%; Power: 750mW
footprint RES SMD 2010
pins: 1, 2

## RES 2010 20R 1%
designator C?, comment 20R
20R 1% 750mW 2010 Thick Film Resistor; Manufacturer: FOJAN; Manufacturer Part Number: FRC2010F20R0TS; Voltage Rating: 200V; Supplier: LCSC; Supplier Part Number: C5159755; Resistance: 20R; Tolerance: 1%; Power: 750mW
footprint RES SMD 2010
pins: 1, 2

## RES 2010 20R 5%
designator C?, comment 20R
20R 5% 750mW 2010 Thick Film Resistor; Manufacturer: FOJAN; Manufacturer Part Number: FRC2010J200 TS; Voltage Rating: 200V; Supplier: LCSC; Supplier Part Number: C2934009; Resistance: 20R; Tolerance: 5%; Power: 750mW
footprint RES SMD 2010
pins: 1, 2

## RES 2010 22k 1%
designator C?, comment 22k
22kR 1% 750mW 2010 Thick Film Resistor; Manufacturer: FOJAN; Manufacturer Part Number: FRC2010F2202TS; Voltage Rating: 200V; Supplier: LCSC; Supplier Part Number: C2974098; Resistance: 22k; Tolerance: 1%; Power: 750mW
footprint RES SMD 2010
pins: 1, 2

## RES 2010 22k 5%
designator C?, comment 22k
22kR 5% 750mW 2010 Thick Film Resistor; Manufacturer: FOJAN; Manufacturer Part Number: FRC2010J223 TS; Voltage Rating: 200V; Supplier: LCSC; Supplier Part Number: C2960854; Resistance: 22k; Tolerance: 5%; Power: 750mW
footprint RES SMD 2010
pins: 1, 2

## RES 2010 22mR 1%
designator C?, comment 22mR
22mR 1% 750mW 2010 Thick Film Resistor; Manufacturer: FOJAN; Manufacturer Part Number: FRL2010FR022TS; Supplier: LCSC; Supplier Part Number: C7507086; Resistance: 22mR; Tolerance: 1%; Power: 750mW
footprint RES SMD 2010
pins: 1, 2

## RES 2010 22MR 5%
designator C?, comment 22MR
22MR 5% 750mW 2010 Thick Film Resistor; Manufacturer: FOJAN; Manufacturer Part Number: FRG2010J226TS; Voltage Rating: 200V; Supplier: LCSC; Supplier Part Number: C5154007; Resistance: 22MR; Tolerance: 5%; Power: 750mW
footprint RES SMD 2010
pins: 1, 2

## RES 2010 22mR 5%_1
designator C?, comment 22mR
22mR 750mW Thick Film Resistor 1200ppm/â„ƒ 5% 2010 Chip Resistor - Surface Mount RoHS; Manufacturer: FOJAN; Manufacturer Part Number: FRL2010JR022TS; Supplier: LCSC; Supplier Part Number: C7467550; Resistance: 22mR; Tolerance: 5%; Power: 750mW
footprint RES SMD 2010
pins: 1, 2

## RES 2010 22R 1%
designator C?, comment 22R
22R 1% 750mW 2010 Thick Film Resistor; Manufacturer: FOJAN; Manufacturer Part Number: FRC2010F22R0TS; Voltage Rating: 200V; Supplier: LCSC; Supplier Part Number: C2933985; Resistance: 22R; Tolerance: 1%; Power: 750mW
footprint RES SMD 2010
pins: 1, 2

## RES 2010 22R 5%
designator C?, comment 22R
22R 5% 750mW 2010 Thick Film Resistor; Manufacturer: FOJAN; Manufacturer Part Number: FRC2010J220TS; Voltage Rating: 200V; Supplier: LCSC; Supplier Part Number: C3000647; Resistance: 22R; Tolerance: 5%; Power: 750mW
footprint RES SMD 2010
pins: 1, 2

## RES 2010 22R 5%_1
designator C?, comment 22R
1W 22R 200V Thick Film Resistor 200ppm/â„ƒ 5% 2010 Chip Resistor - Surface Mount RoHS; Manufacturer: FOJAN; Manufacturer Part Number: FRP2010J220 TS; Supplier: LCSC; Supplier Part Number: C49196874; Resistance: 22R; Tolerance: 5%; Voltage Rating: 200V; Power: 1W
footprint RES SMD 2010
pins: 1, 2

## RES 2010 24k 1%
designator C?, comment 24k
24kR 1% 750mW 2010 Thick Film Resistor; Manufacturer: FOJAN; Manufacturer Part Number: FRC2010F2402TS; Voltage Rating: 200V; Supplier: LCSC; Supplier Part Number: C3000549; Resistance: 24k; Tolerance: 1%; Power: 750mW
footprint RES SMD 2010
pins: 1, 2

## RES 2010 24k 5%
designator C?, comment 24k
24kR 5% 750mW 2010 Thick Film Resistor; Manufacturer: FOJAN; Manufacturer Part Number: FRC2010J243TS; Voltage Rating: 200V; Supplier: LCSC; Supplier Part Number: C5379847; Resistance: 24k; Tolerance: 5%; Power: 750mW
footprint RES SMD 2010
pins: 1, 2

## RES 2010 24R 1%
designator C?, comment 24R
24R 1% 750mW 2010 Thick Film Resistor; Manufacturer: FOJAN; Manufacturer Part Number: FRC2010F24R0TS; Voltage Rating: 200V; Supplier: LCSC; Supplier Part Number: C2960916; Resistance: 24R; Tolerance: 1%; Power: 750mW
footprint RES SMD 2010
pins: 1, 2

## RES 2010 24R 5%
designator C?, comment 24R
24R 5% 750mW 2010 Thick Film Resistor; Manufacturer: FOJAN; Manufacturer Part Number: FRC2010J240 TS; Voltage Rating: 200V; Supplier: LCSC; Supplier Part Number: C2934014; Resistance: 24R; Tolerance: 5%; Power: 750mW
footprint RES SMD 2010
pins: 1, 2

## RES 2010 27k 1%
designator C?, comment 27k
27kR 1% 750mW 2010 Thick Film Resistor; Manufacturer: FOJAN; Manufacturer Part Number: FRC2010F2702TS; Voltage Rating: 200V; Supplier: LCSC; Supplier Part Number: C3000762; Resistance: 27k; Tolerance: 1%; Power: 750mW
footprint RES SMD 2010
pins: 1, 2

## RES 2010 27R 1%
designator C?, comment 27R
27R 1% 750mW 2010 Thick Film Resistor; Manufacturer: FOJAN; Manufacturer Part Number: FRC2010F27R0TS; Voltage Rating: 200V; Supplier: LCSC; Supplier Part Number: C2933987; Resistance: 27R; Tolerance: 1%; Power: 750mW
footprint RES SMD 2010
pins: 1, 2

## RES 2010 27R 5%
designator C?, comment 27R
27R 5% 750mW 2010 Thick Film Resistor; Manufacturer: FOJAN; Manufacturer Part Number: FRC2010J270 TS; Voltage Rating: 200V; Supplier: LCSC; Supplier Part Number: C2960829; Resistance: 27R; Tolerance: 5%; Power: 750mW
footprint RES SMD 2010
pins: 1, 2

## RES 2010 30k 1%
designator C?, comment 30k
30kR 1% 750mW 2010 Thick Film Resistor; Manufacturer: FOJAN; Manufacturer Part Number: FRC2010F3002TS; Voltage Rating: 200V; Supplier: LCSC; Supplier Part Number: C5713368; Resistance: 30k; Tolerance: 1%; Power: 750mW
footprint RES SMD 2010
pins: 1, 2

## RES 2010 30k 5%
designator C?, comment 30k
30kR 5% 750mW 2010 Thick Film Resistor; Manufacturer: FOJAN; Manufacturer Part Number: FRC2010J303 TS; Voltage Rating: 200V; Supplier: LCSC; Supplier Part Number: C2934022; Resistance: 30k; Tolerance: 5%; Power: 750mW
footprint RES SMD 2010
pins: 1, 2

## RES 2010 30R1 1%
designator C?, comment 30R1
30.1R 750mW 200V Thick Film Resistor 1% 2010 Chip Resistor - Surface Mount RoHS; Manufacturer: FOJAN; Manufacturer Part Number: FRC2010F30R1TS; Supplier: LCSC; Supplier Part Number: C51048346; Resistance: 30R1; Tolerance: 1%; Voltage Rating: 200V; Power: 750mW
footprint RES SMD 2010
pins: 1, 2

## RES 2010 30R 1%
designator C?, comment 30R
30R 1% 750mW 2010 Thick Film Resistor; Manufacturer: FOJAN; Manufacturer Part Number: FRC2010F30R0TS; Voltage Rating: 200V; Supplier: LCSC; Supplier Part Number: C2999590; Resistance: 30R; Tolerance: 1%; Power: 750mW
footprint RES SMD 2010
pins: 1, 2

## RES 2010 30R 5%
designator C?, comment 30R
30R 5% 750mW 2010 Thick Film Resistor; Manufacturer: FOJAN; Manufacturer Part Number: FRC2010J300 TS; Voltage Rating: 200V; Supplier: LCSC; Supplier Part Number: C2934020; Resistance: 30R; Tolerance: 5%; Power: 750mW
footprint RES SMD 2010
pins: 1, 2

## RES 2010 31k6 1%
designator C?, comment 31k6
31.6kR 1% 750mW 2010 Thick Film Resistor; Manufacturer: FOJAN; Manufacturer Part Number: FRC2010F3162TS; Voltage Rating: 200V; Supplier: LCSC; Supplier Part Number: C3000666; Resistance: 31k6; Tolerance: 1%; Power: 750mW
footprint RES SMD 2010
pins: 1, 2

## RES 2010 33k 1%
designator C?, comment 33k
33kR 1% 750mW 2010 Thick Film Resistor; Manufacturer: FOJAN; Manufacturer Part Number: FRC2010F3302TS; Voltage Rating: 200V; Supplier: LCSC; Supplier Part Number: C5159757; Resistance: 33k; Tolerance: 1%; Power: 750mW
footprint RES SMD 2010
pins: 1, 2

## RES 2010 33k 5%
designator C?, comment 33k
33kR 5% 750mW 2010 Thick Film Resistor; Manufacturer: FOJAN; Manufacturer Part Number: FRC2010J333 TS; Voltage Rating: 200V; Supplier: LCSC; Supplier Part Number: C2960915; Resistance: 33k; Tolerance: 5%; Power: 750mW
footprint RES SMD 2010
pins: 1, 2

## RES 2010 33mR 1%
designator C?, comment 33mR
33mR 750mW Thick Film Resistor 1200ppm/â„ƒ 1% 2010 Chip Resistor - Surface Mount RoHS; Manufacturer: FOJAN; Manufacturer Part Number: FRL2010FR033TS; Supplier: LCSC; Supplier Part Number: C7467663; Resistance: 33mR; Tolerance: 1%; Power: 750mW
footprint RES SMD 2010
pins: 1, 2

## RES 2010 33mR 5%
designator C?, comment 33mR
33mR 750mW Thick Film Resistor 1200ppm/â„ƒ 5% 2010 Chip Resistor - Surface Mount RoHS; Manufacturer: FOJAN; Manufacturer Part Number: FRL2010JR033TS; Supplier: LCSC; Supplier Part Number: C7467576; Resistance: 33mR; Tolerance: 5%; Power: 750mW
footprint RES SMD 2010
pins: 1, 2

## RES 2010 33R2 1%
designator C?, comment 33R2
33.2R 1% 750mW 2010 Thick Film Resistor; Manufacturer: FOJAN; Manufacturer Part Number: FRC2010F33R2TS; Voltage Rating: 200V; Supplier: LCSC; Supplier Part Number: C5126118; Resistance: 33R2; Tolerance: 1%; Power: 750mW
footprint RES SMD 2010
pins: 1, 2

## RES 2010 33R 1%
designator C?, comment 33R
33R 1% 750mW 2010 Thick Film Resistor; Manufacturer: FOJAN; Manufacturer Part Number: FRC2010F33R0TS; Voltage Rating: 200V; Supplier: LCSC; Supplier Part Number: C3000763; Resistance: 33R; Tolerance: 1%; Power: 750mW
footprint RES SMD 2010
pins: 1, 2

## RES 2010 33R 5%
designator C?, comment 33R
33R 5% 750mW 2010 Thick Film Resistor; Manufacturer: FOJAN; Manufacturer Part Number: FRC2010J330 TS; Voltage Rating: 200V; Supplier: LCSC; Supplier Part Number: C2907564; Resistance: 33R; Tolerance: 5%; Power: 750mW
footprint RES SMD 2010
pins: 1, 2

## RES 2010 36k 5%
designator C?, comment 36k
36kR 5% 750mW 2010 Thick Film Resistor; Manufacturer: FOJAN; Manufacturer Part Number: FRC2010J363 TS; Voltage Rating: 200V; Supplier: LCSC; Supplier Part Number: C2934024; Resistance: 36k; Tolerance: 5%; Power: 750mW
footprint RES SMD 2010
pins: 1, 2

## RES 2010 36R 1%
designator C?, comment 36R
36R 1% 750mW 2010 Thick Film Resistor; Manufacturer: FOJAN; Manufacturer Part Number: FRC2010F36R0TS; Voltage Rating: 200V; Supplier: LCSC; Supplier Part Number: C2960735; Resistance: 36R; Tolerance: 1%; Power: 750mW
footprint RES SMD 2010
pins: 1, 2

## RES 2010 36R 5%
designator C?, comment 36R
36R 5% 750mW 2010 Thick Film Resistor; Manufacturer: FOJAN; Manufacturer Part Number: FRC2010J360TS; Voltage Rating: 200V; Supplier: LCSC; Supplier Part Number: C2930005; Resistance: 36R; Tolerance: 5%; Power: 750mW
footprint RES SMD 2010
pins: 1, 2

## RES 2010 39k 5%
designator C?, comment 39k
39kR 5% 750mW 2010 Thick Film Resistor; Manufacturer: FOJAN; Manufacturer Part Number: FRC2010J393 TS; Voltage Rating: 200V; Supplier: LCSC; Supplier Part Number: C2934026; Resistance: 39k; Tolerance: 5%; Power: 750mW
footprint RES SMD 2010
pins: 1, 2

## RES 2010 39R 1%
designator C?, comment 39R
39R 1% 750mW 2010 Thick Film Resistor; Manufacturer: FOJAN; Manufacturer Part Number: FRC2010F39R0TS; Voltage Rating: 200V; Supplier: LCSC; Supplier Part Number: C3013306; Resistance: 39R; Tolerance: 1%; Power: 750mW
footprint RES SMD 2010
pins: 1, 2

## RES 2010 39R 5%
designator C?, comment 39R
39R 5% 750mW 2010 Thick Film Resistor; Manufacturer: FOJAN; Manufacturer Part Number: FRC2010J390 TS; Voltage Rating: 200V; Supplier: LCSC; Supplier Part Number: C2934025; Resistance: 39R; Tolerance: 5%; Power: 750mW
footprint RES SMD 2010
pins: 1, 2

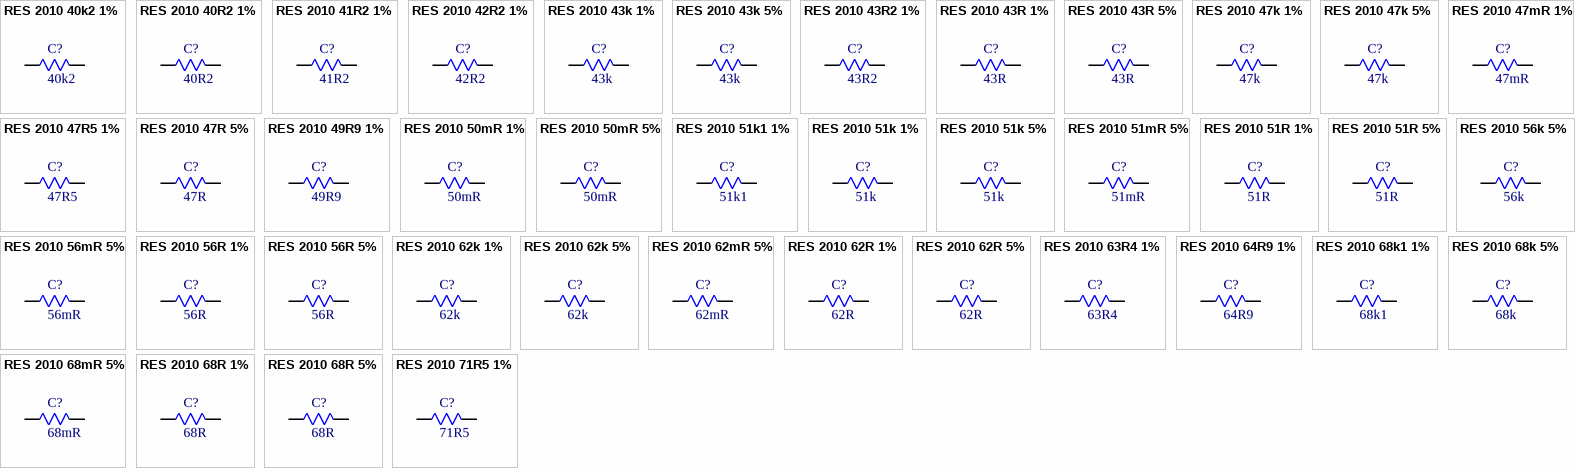
[diagram p104: symbols RES 2010 40k2 1% to RES 2010 71R5 1%]